# Altium schematic symbol library LM1171Scheme.SchLib: 1 symbol
Pins are listed as number, name and electrical type; pins without a type are passive.

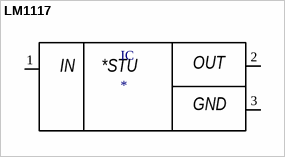
[diagram p0: symbol LM1117]

## LM1117
designator IC
Linear Voltage Regulator IC 1 Output 800mA SOT-223-4; MP: LM1117; MF: Texas Instruments; SnapEDA_Link: https://www.snapeda.com/parts/LM1117/Texas%20Instruments/view-part/555980/?ref=snap; Price: None; Value: *; Availability: Unavailable; Package: SOT-223-4 Texas Instruments
footprint DPACK
pins: 1 IN, 2 OUT, 3 GND
text: *STU